# Altium footprint library CornellBajaLibrary.PcbLib: 110 footprints (part 5 of 7)
Each footprint in its own frame and in the unit in brackets; x right, y up, seen from the top. Pads: shape width x height; smd on the part's side, far side on the other; paste and mask are expansions set on the pad; w line width, h text height; cw(c..) or ccw(c..) is an arc to the next point about the centre after c.
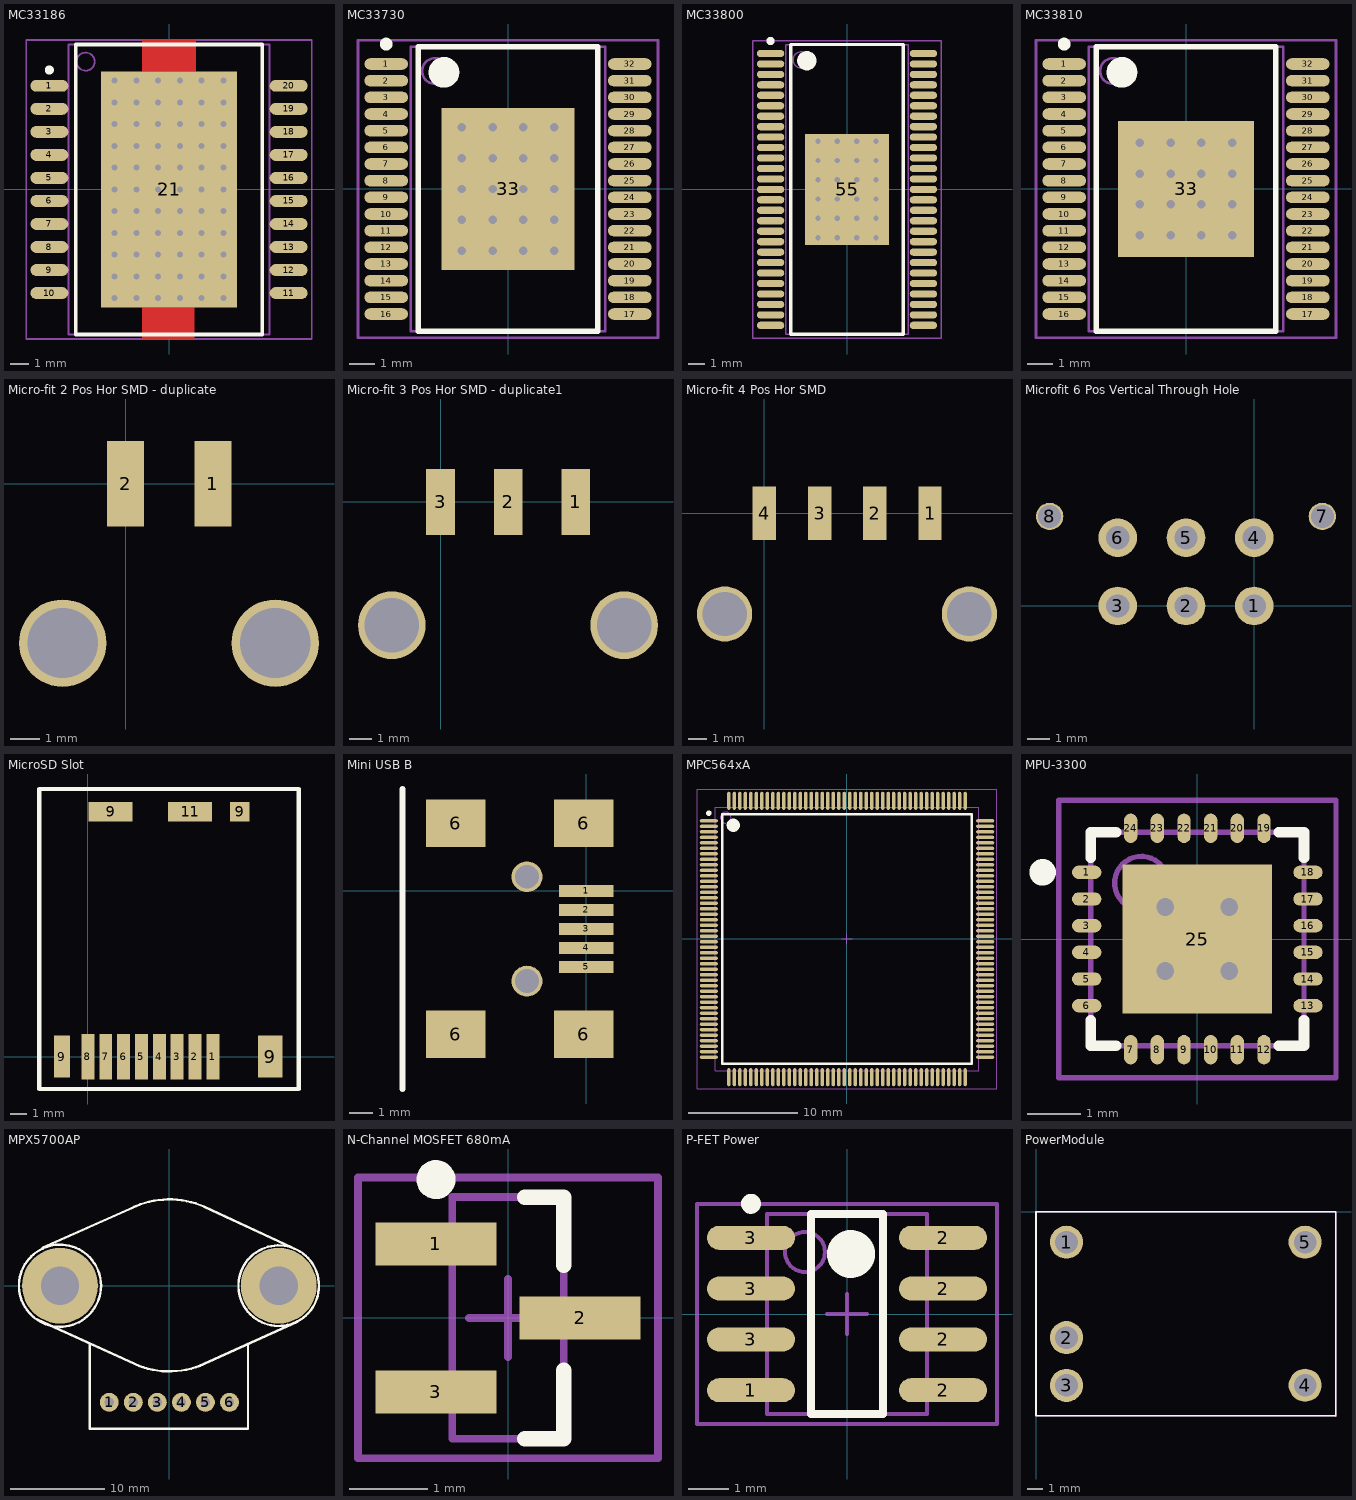
[diagram p4: the footprints below, top view; thin cyan lines are the x and y axes]

## MC33186 [mm] "SOP, 20-Leads, Body 16.0x11.1mm (max), Pitch 1.27mm, IPC Medium Density"
height 3.4
pads (21):
  oval 2.1x0.65 smd: 1(-6.6,5.715) 2(-6.6,4.445) 3(-6.6,3.175) 4(-6.6,1.905) 5(-6.6,0.635) 6(-6.6,-0.635) 7(-6.6,-1.905) 8(-6.6,-3.175) 9(-6.6,-4.445) 10(-6.6,-5.715) 11(6.6,-5.715) 12(6.6,-4.445) 13(6.6,-3.175) 14(6.6,-1.905) 15(6.6,-0.635) 16(6.6,0.635) 17(6.6,1.905) 18(6.6,3.175) 19(6.6,4.445) 20(6.6,5.715)
  rect 7.5x13 smd: 21(0,0)
via -3,6 diameter 0.66 hole 0.33
via -1.8,6 diameter 0.66 hole 0.33
via -0.6,6 diameter 0.66 hole 0.33
via 0.6,6 diameter 0.66 hole 0.33
via 1.8,6 diameter 0.66 hole 0.33
via 3,6 diameter 0.66 hole 0.33
via -3,4.8 diameter 0.66 hole 0.33
via -1.8,4.8 diameter 0.66 hole 0.33
via -0.6,4.8 diameter 0.66 hole 0.33
via 0.6,4.8 diameter 0.66 hole 0.33
via 1.8,4.8 diameter 0.66 hole 0.33
via 3,4.8 diameter 0.66 hole 0.33
via -3,3.6 diameter 0.66 hole 0.33
via -1.8,3.6 diameter 0.66 hole 0.33
via -0.6,3.6 diameter 0.66 hole 0.33
via 0.6,3.6 diameter 0.66 hole 0.33
via 1.8,3.6 diameter 0.66 hole 0.33
via 3,3.6 diameter 0.66 hole 0.33
via -3,2.4 diameter 0.66 hole 0.33
via -1.8,2.4 diameter 0.66 hole 0.33
via -0.6,2.4 diameter 0.66 hole 0.33
via 0.6,2.4 diameter 0.66 hole 0.33
via 1.8,2.4 diameter 0.66 hole 0.33
via 3,2.4 diameter 0.66 hole 0.33
via -3,1.2 diameter 0.66 hole 0.33
via -1.8,1.2 diameter 0.66 hole 0.33
via -0.6,1.2 diameter 0.66 hole 0.33
via 0.6,1.2 diameter 0.66 hole 0.33
via 1.8,1.2 diameter 0.66 hole 0.33
via 3,1.2 diameter 0.66 hole 0.33
via -3,0 diameter 0.66 hole 0.33
via -1.8,0 diameter 0.66 hole 0.33
via -0.6,0 diameter 0.66 hole 0.33
via 0.6,0 diameter 0.66 hole 0.33
via 1.8,0 diameter 0.66 hole 0.33
via 3,0 diameter 0.66 hole 0.33
via -3,-1.2 diameter 0.66 hole 0.33
via -1.8,-1.2 diameter 0.66 hole 0.33
via -0.6,-1.2 diameter 0.66 hole 0.33
via 0.6,-1.2 diameter 0.66 hole 0.33
via 1.8,-1.2 diameter 0.66 hole 0.33
via 3,-1.2 diameter 0.66 hole 0.33
via -3,-2.4 diameter 0.66 hole 0.33
via -1.8,-2.4 diameter 0.66 hole 0.33
via -0.6,-2.4 diameter 0.66 hole 0.33
via 0.6,-2.4 diameter 0.66 hole 0.33
via 1.8,-2.4 diameter 0.66 hole 0.33
via 3,-2.4 diameter 0.66 hole 0.33
via -3,-3.6 diameter 0.66 hole 0.33
via -1.8,-3.6 diameter 0.66 hole 0.33
via -0.6,-3.6 diameter 0.66 hole 0.33
via 0.6,-3.6 diameter 0.66 hole 0.33
via 1.8,-3.6 diameter 0.66 hole 0.33
via 3,-3.6 diameter 0.66 hole 0.33
via -3,-4.8 diameter 0.66 hole 0.33
via -1.8,-4.8 diameter 0.66 hole 0.33
via -0.6,-4.8 diameter 0.66 hole 0.33
via 0.6,-4.8 diameter 0.66 hole 0.33
via 1.8,-4.8 diameter 0.66 hole 0.33
via 3,-4.8 diameter 0.66 hole 0.33
via -3,-6 diameter 0.66 hole 0.33
via -1.8,-6 diameter 0.66 hole 0.33
via -0.6,-6 diameter 0.66 hole 0.33
via 0.6,-6 diameter 0.66 hole 0.33
via 1.8,-6 diameter 0.66 hole 0.33
via 3,-6 diameter 0.66 hole 0.33
Top Layer:
  rectangle: -1.5,6.5 1.5,8.3
  rectangle: -1.5,-8.25 1.4,-6.5
Top Overlay:
  circle w0.25: c-6.6,6.59 r0.125
  lines w0.2: -5.15,-8 -5.15,8 5.15,8 5.15,-8 -5.15,-8
Mechanical 13:
  circle w0.1: c-4.6,7.05 r0.5
  lines w0.1: -5.55,-8 -5.55,8 5.55,8 5.55,-8 -5.55,-8
Mechanical 15:
  lines w0.1: -0.5,0 0.5,0 ; 0,-0.5 0,0.5 ; -7.875,-8.25 -7.875,8.25 7.875,8.25 7.875,-8.25 -7.875,-8.25
3D body: height 3.4, standoff 0, extent -5.55,-8 5.55,8

## MC33730 [mm] "SOP, 32-Leads, Body 11.1x7.6mm (max), Pitch 0.65mm, IPC Medium Density"
height 2.65
pads (33):
  oval 1.7x0.45 smd: 1(-4.75,4.875) 2(-4.75,4.225) 3(-4.75,3.575) 4(-4.75,2.925) 5(-4.75,2.275) 6(-4.75,1.625) 7(-4.75,0.975) 8(-4.75,0.325) 9(-4.75,-0.325) 10(-4.75,-0.975) 11(-4.75,-1.625) 12(-4.75,-2.275) 13(-4.75,-2.925) 14(-4.75,-3.575) 15(-4.75,-4.225) 16(-4.75,-4.875) 17(4.75,-4.875) 18(4.75,-4.225) 19(4.75,-3.575) 20(4.75,-2.925) 21(4.75,-2.275) 22(4.75,-1.625) 23(4.75,-0.975) 24(4.75,-0.325) 25(4.75,0.325) 26(4.75,0.975) 27(4.75,1.625) 28(4.75,2.275) 29(4.75,2.925) 30(4.75,3.575) 31(4.75,4.225) 32(4.75,4.875)
  rect 5.2x6.3 smd: 33(0,0)
via 1.8,-2.4 diameter 0.66 hole 0.33
via 0.6,-2.4 diameter 0.66 hole 0.33
via -0.6,-2.4 diameter 0.66 hole 0.33
via -1.8,-2.4 diameter 0.66 hole 0.33
via 1.8,-1.2 diameter 0.66 hole 0.33
via 0.6,-1.2 diameter 0.66 hole 0.33
via -0.6,-1.2 diameter 0.66 hole 0.33
via -1.8,-1.2 diameter 0.66 hole 0.33
via 1.8,0 diameter 0.66 hole 0.33
via 0.6,0 diameter 0.66 hole 0.33
via -0.6,0 diameter 0.66 hole 0.33
via -1.8,0 diameter 0.66 hole 0.33
via 1.8,1.2 diameter 0.66 hole 0.33
via 0.6,1.2 diameter 0.66 hole 0.33
via -0.6,1.2 diameter 0.66 hole 0.33
via -1.8,1.2 diameter 0.66 hole 0.33
via 1.8,2.4 diameter 0.66 hole 0.33
via 0.6,2.4 diameter 0.66 hole 0.33
via -0.6,2.4 diameter 0.66 hole 0.33
via -1.8,2.4 diameter 0.66 hole 0.33
Top Overlay:
  circle w0.6: c-2.5,4.55 r0.3
  circle w0.25: c-4.75,5.65 r0.125
  lines w0.2: -3.5,-5.55 3.5,-5.55 3.5,5.55 -3.5,5.55 -3.5,-5.55
Mechanical 13:
  circle w0.1: c-2.85,4.6 r0.5
  lines w0.1: -3.8,-5.55 3.8,-5.55 3.8,5.55 -3.8,5.55 -3.8,-5.55
Mechanical 15:
  lines w0.1: -0.5,0 0.5,0 ; 0,-0.5 0,0.5 ; -5.85,-5.8 5.85,-5.8 5.85,5.8 -5.85,5.8 -5.85,-5.8
3D body: height 2.65, standoff 0, extent -3.8,-5.55 3.8,5.55

## MC33800 [mm] "SOP, 54-Leads, Body 18.0x7.6mm (max), Pitch 0.65mm, IPC Medium Density"
height 2.45
pads (55):
  oval 1.7x0.45 smd: 1(-4.75,8.45) 2(-4.75,7.8) 3(-4.75,7.15) 4(-4.75,6.5) 5(-4.75,5.85) 6(-4.75,5.2) 7(-4.75,4.55) 8(-4.75,3.9) 9(-4.75,3.25) 10(-4.75,2.6) 11(-4.75,1.95) 12(-4.75,1.3) 13(-4.75,0.65) 14(-4.75,0) 15(-4.75,-0.65) 16(-4.75,-1.3) 17(-4.75,-1.95) 18(-4.75,-2.6) 19(-4.75,-3.25) 20(-4.75,-3.9) 21(-4.75,-4.55) 22(-4.75,-5.2) 23(-4.75,-5.85) 24(-4.75,-6.5) 25(-4.75,-7.15) 26(-4.75,-7.8) 27(-4.75,-8.45) 28(4.75,-8.45) 29(4.75,-7.8) 30(4.75,-7.15) 31(4.75,-6.5) 32(4.75,-5.85) 33(4.75,-5.2) 34(4.75,-4.55) 35(4.75,-3.9) 36(4.75,-3.25) 37(4.75,-2.6) 38(4.75,-1.95) 39(4.75,-1.3) 40(4.75,-0.65) 41(4.75,0) 42(4.75,0.65) 43(4.75,1.3) 44(4.75,1.95) 45(4.75,2.6) 46(4.75,3.25) 47(4.75,3.9) 48(4.75,4.55) 49(4.75,5.2) 50(4.75,5.85) 51(4.75,6.5) 52(4.75,7.15) 53(4.75,7.8) 54(4.75,8.45)
  rect 5.2x6.9 smd: 55(0,0)
via 1.8,-3 diameter 0.66 hole 0.33
via 0.6,-3 diameter 0.66 hole 0.33
via -0.6,-3 diameter 0.66 hole 0.33
via -1.8,-3 diameter 0.66 hole 0.33
via 1.8,-1.8 diameter 0.66 hole 0.33
via 0.6,-1.8 diameter 0.66 hole 0.33
via -0.6,-1.8 diameter 0.66 hole 0.33
via -1.8,-1.8 diameter 0.66 hole 0.33
via 1.8,-0.6 diameter 0.66 hole 0.33
via 0.6,-0.6 diameter 0.66 hole 0.33
via -0.6,-0.6 diameter 0.66 hole 0.33
via -1.8,-0.6 diameter 0.66 hole 0.33
via 1.8,0.6 diameter 0.66 hole 0.33
via 0.6,0.6 diameter 0.66 hole 0.33
via -0.6,0.6 diameter 0.66 hole 0.33
via -1.8,0.6 diameter 0.66 hole 0.33
via 1.8,1.8 diameter 0.66 hole 0.33
via 0.6,1.8 diameter 0.66 hole 0.33
via -0.6,1.8 diameter 0.66 hole 0.33
via -1.8,1.8 diameter 0.66 hole 0.33
via 1.8,3 diameter 0.66 hole 0.33
via 0.6,3 diameter 0.66 hole 0.33
via -0.6,3 diameter 0.66 hole 0.33
via -1.8,3 diameter 0.66 hole 0.33
Top Overlay:
  circle w0.6: c-2.5,8 r0.3
  circle w0.25: c-4.75,9.225 r0.125
  lines w0.2: -3.5,-9 3.5,-9 3.5,9 -3.5,9 -3.5,-9
Mechanical 13:
  circle w0.1: c-2.85,8.05 r0.5
  lines w0.1: -3.8,-9 3.8,-9 3.8,9 -3.8,9 -3.8,-9
Mechanical 15:
  lines w0.1: -0.5,0 0.5,0 ; 0,-0.5 0,0.5 ; -5.85,-9.25 5.85,-9.25 5.85,9.25 -5.85,9.25 -5.85,-9.25
3D body: height 2.45, standoff 0, extent -3.8,-9 3.8,9

## MC33810 [mm] "SOP, 32-Leads, Body 11.1x7.6mm (max), Pitch 0.65mm, IPC Medium Density"
height 2.45
pads (33):
  oval 1.7x0.45 smd: 1(-4.75,4.875) 2(-4.75,4.225) 3(-4.75,3.575) 4(-4.75,2.925) 5(-4.75,2.275) 6(-4.75,1.625) 7(-4.75,0.975) 8(-4.75,0.325) 9(-4.75,-0.325) 10(-4.75,-0.975) 11(-4.75,-1.625) 12(-4.75,-2.275) 13(-4.75,-2.925) 14(-4.75,-3.575) 15(-4.75,-4.225) 16(-4.75,-4.875) 17(4.75,-4.875) 18(4.75,-4.225) 19(4.75,-3.575) 20(4.75,-2.925) 21(4.75,-2.275) 22(4.75,-1.625) 23(4.75,-0.975) 24(4.75,-0.325) 25(4.75,0.325) 26(4.75,0.975) 27(4.75,1.625) 28(4.75,2.275) 29(4.75,2.925) 30(4.75,3.575) 31(4.75,4.225) 32(4.75,4.875)
  rect 5.3x5.3 smd: 33(0,0)
via -1.8,1.8 diameter 0.66 hole 0.33
via 0.6,1.8 diameter 0.66 hole 0.33
via 1.8,1.8 diameter 0.66 hole 0.33
via -1.8,0.6 diameter 0.66 hole 0.33
via -0.6,0.6 diameter 0.66 hole 0.33
via 0.6,0.6 diameter 0.66 hole 0.33
via 1.8,0.6 diameter 0.66 hole 0.33
via -1.8,-0.6 diameter 0.66 hole 0.33
via -0.6,-0.6 diameter 0.66 hole 0.33
via 0.6,-0.6 diameter 0.66 hole 0.33
via 1.8,-0.6 diameter 0.66 hole 0.33
via -1.8,-1.8 diameter 0.66 hole 0.33
via -0.6,-1.8 diameter 0.66 hole 0.33
via 0.6,-1.8 diameter 0.66 hole 0.33
via 1.8,-1.8 diameter 0.66 hole 0.33
via -0.6,1.8 diameter 0.66 hole 0.33
Top Overlay:
  circle w0.6: c-2.5,4.55 r0.3
  circle w0.25: c-4.75,5.65 r0.125
  lines w0.2: -3.5,-5.55 3.5,-5.55 3.5,5.55 -3.5,5.55 -3.5,-5.55
Mechanical 13:
  circle w0.1: c-2.85,4.6 r0.5
  lines w0.1: -3.8,-5.55 3.8,-5.55 3.8,5.55 -3.8,5.55 -3.8,-5.55
Mechanical 15:
  lines w0.1: -0.5,0 0.5,0 ; 0,-0.5 0,0.5 ; -5.85,-5.8 5.85,-5.8 5.85,5.8 -5.85,5.8 -5.85,-5.8
3D body: height 2.45, standoff 0, extent -3.8,-5.55 3.8,5.55

## Micro-fit 2 Pos Hor SMD - duplicate [mm]
pads (4):
  rect 1.27x2.92 smd: 1(3,0) 2(0,0)
  round 3 hole 2.41: ""(-2.16,-5.47) ""(5.14,-5.47)
3D body: height 5.73, standoff -1.87, extent -3.325,-10.05 6.325,0.69

## Micro-fit 3 Pos Hor SMD - duplicate1 [mm]
pads (5):
  rect 1.27x2.92 smd: 1(6,0) 2(3,0) 3(0,0)
  round 3 hole 2.41: ""(-2.16,-5.47) ""(8.14,-5.47)
3D body: height 5.73, standoff -1.87, extent -3.325,-10.15 9.325,0.59

## Micro-fit 4 Pos Hor SMD [mm]
pads (6):
  rect 1.27x2.92 smd: 1(9,0) 2(6,0) 3(3,0) 4(0,0)
  round 3 hole 2.41: ""(-2.16,-5.47) ""(11.14,-5.47)
3D body: height 5.73, standoff -1.87, extent -3.225,-10.05 12.425,0.69

## Microfit 6 Pos Vertical Through Hole [mm]
pads (8):
  round 1.7 hole 1.02: 1(0,0) 2(-3,0) 3(-6,0) 4(0,3) 5(-3,3) 6(-6,3)
  round 1.2 hole 1.02: 7(3,3.94) 8(-9,3.94)
3D body: height 10.05, standoff -3.04, extent -9.575,-2.47 3.575,6.3

## MicroSD Slot [mm] "DM3CS-SF"
height 2
pads (13):
  rect 0.8x2.8 smd: 1(7.7,0) 2(6.6,0) 3(5.5,0) 4(4.4,0) 5(3.3,0) 6(2.2,0) 7(1.1,0) 8(0,0)
  rect 1x2.6 smd: 9(-1.6,0)
  rect 2.7x1.2 smd: 9(1.4,15.1) 11(6.3,15.1)
  rect 1.2x1.2 smd: 9(9.35,15.1)
  rect 1.5x2.6 smd: 9(11.25,0)
Top Overlay:
  lines w0.254: -3,-2 13,-2 13,16.5 -3,16.5 -3,-2
3D body: height 2, standoff 0, extent -3,-2 13,16.5

## Mini USB B [mm]
height 4
pads (11):
  rect 2.3x0.5 smd: 1(0,0) 2(0,-0.8) 3(0,-1.6) 4(0,-2.4) 5(0,-3.2)
  rect 2.5x2 smd: 6(-5.5,-6.05) 6(-5.5,2.85) 6(-0.1,-6.05) 6(-0.1,2.85)
  round 1.3 hole 1: ""(-2.5,-3.8) ""(-2.5,0.6)
Top Overlay:
  lines w0.254: -7.75,-8.35 -7.75,-2.525 -7.75,4.3
3D body: height 4.14, standoff -0.95, extent -8.375,-6.598 0.825,3.302

## MPC564xA [mm] "TSQFP, 176-Leads, Body 26.0x26.0mm (max), Pitch 0.50mm, IPC Medium Density"
height 1.6
pads (176):
  oval 1.65x0.3 smd: 1(-12.575,10.75) 2(-12.575,10.25) 3(-12.575,9.75) 4(-12.575,9.25) 5(-12.575,8.75) 6(-12.575,8.25) 7(-12.575,7.75) 8(-12.575,7.25) 9(-12.575,6.75) 10(-12.575,6.25) 11(-12.575,5.75) 12(-12.575,5.25) 13(-12.575,4.75) 14(-12.575,4.25) 15(-12.575,3.75) 16(-12.575,3.25) 17(-12.575,2.75) 18(-12.575,2.25) 19(-12.575,1.75) 20(-12.575,1.25) 21(-12.575,0.75) 22(-12.575,0.25) 23(-12.575,-0.25) 24(-12.575,-0.75) 25(-12.575,-1.25) 26(-12.575,-1.75) 27(-12.575,-2.25) 28(-12.575,-2.75) 29(-12.575,-3.25) 30(-12.575,-3.75) 31(-12.575,-4.25) 32(-12.575,-4.75) 33(-12.575,-5.25) 34(-12.575,-5.75) 35(-12.575,-6.25) 36(-12.575,-6.75) 37(-12.575,-7.25) 38(-12.575,-7.75) 39(-12.575,-8.25) 40(-12.575,-8.75) 41(-12.575,-9.25) 42(-12.575,-9.75) 43(-12.575,-10.25) 44(-12.575,-10.75) 89(12.575,-10.75) 90(12.575,-10.25) 91(12.575,-9.75) 92(12.575,-9.25) 93(12.575,-8.75) 94(12.575,-8.25) 95(12.575,-7.75) 96(12.575,-7.25) 97(12.575,-6.75) 98(12.575,-6.25) 99(12.575,-5.75) 100(12.575,-5.25) 101(12.575,-4.75) 102(12.575,-4.25) 103(12.575,-3.75) 104(12.575,-3.25) 105(12.575,-2.75) 106(12.575,-2.25) 107(12.575,-1.75) 108(12.575,-1.25) 109(12.575,-0.75) 110(12.575,-0.25) 111(12.575,0.25) 112(12.575,0.75) 113(12.575,1.25) 114(12.575,1.75) 115(12.575,2.25) 116(12.575,2.75) 117(12.575,3.25) 118(12.575,3.75) 119(12.575,4.25) 120(12.575,4.75) 121(12.575,5.25) 122(12.575,5.75) 123(12.575,6.25) 124(12.575,6.75) 125(12.575,7.25) 126(12.575,7.75) 127(12.575,8.25) 128(12.575,8.75) 129(12.575,9.25) 130(12.575,9.75) 131(12.575,10.25) 132(12.575,10.75)
  oval 0.3x1.65 smd: 45(-10.75,-12.575) 46(-10.25,-12.575) 47(-9.75,-12.575) 48(-9.25,-12.575) 49(-8.75,-12.575) 50(-8.25,-12.575) 51(-7.75,-12.575) 52(-7.25,-12.575) 53(-6.75,-12.575) 54(-6.25,-12.575) 55(-5.75,-12.575) 56(-5.25,-12.575) 57(-4.75,-12.575) 58(-4.25,-12.575) 59(-3.75,-12.575) 60(-3.25,-12.575) 61(-2.75,-12.575) 62(-2.25,-12.575) 63(-1.75,-12.575) 64(-1.25,-12.575) 65(-0.75,-12.575) 66(-0.25,-12.575) 67(0.25,-12.575) 68(0.75,-12.575) 69(1.25,-12.575) 70(1.75,-12.575) 71(2.25,-12.575) 72(2.75,-12.575) 73(3.25,-12.575) 74(3.75,-12.575) 75(4.25,-12.575) 76(4.75,-12.575) 77(5.25,-12.575) 78(5.75,-12.575) 79(6.25,-12.575) 80(6.75,-12.575) 81(7.25,-12.575) 82(7.75,-12.575) 83(8.25,-12.575) 84(8.75,-12.575) 85(9.25,-12.575) 86(9.75,-12.575) 87(10.25,-12.575) 88(10.75,-12.575) 133(10.75,12.575) 134(10.25,12.575) 135(9.75,12.575) 136(9.25,12.575) 137(8.75,12.575) 138(8.25,12.575) 139(7.75,12.575) 140(7.25,12.575) 141(6.75,12.575) 142(6.25,12.575) 143(5.75,12.575) 144(5.25,12.575) 145(4.75,12.575) 146(4.25,12.575) 147(3.75,12.575) 148(3.25,12.575) 149(2.75,12.575) 150(2.25,12.575) 151(1.75,12.575) 152(1.25,12.575) 153(0.75,12.575) 154(0.25,12.575) 155(-0.25,12.575) 156(-0.75,12.575) 157(-1.25,12.575) 158(-1.75,12.575) 159(-2.25,12.575) 160(-2.75,12.575) 161(-3.25,12.575) 162(-3.75,12.575) 163(-4.25,12.575) 164(-4.75,12.575) 165(-5.25,12.575) 166(-5.75,12.575) 167(-6.25,12.575) 168(-6.75,12.575) 169(-7.25,12.575) 170(-7.75,12.575) 171(-8.25,12.575) 172(-8.75,12.575) 173(-9.25,12.575) 174(-9.75,12.575) 175(-10.25,12.575) 176(-10.75,12.575)
Top Overlay:
  circle w0.6: c-10.35,10.35 r0.3
  circle w0.25: c-12.575,11.45 r0.125
  lines w0.2: -11.35,-11.35 11.35,-11.35 11.35,11.35 -11.35,11.35 -11.35,-11.35
Mechanical 13:
  circle w0.1: c-11.05,11.05 r0.5
  lines w0.1: -12,-12 12,-12 12,12 -12,12 -12,-12
Mechanical 15:
  lines w0.1: -0.5,0 0.5,0 ; 0,-0.5 0,0.5 ; -13.65,-13.65 13.65,-13.65 13.65,13.65 -13.65,13.65 -13.65,-13.65
3D body: height 1.6, standoff 0.05, extent -12,-12 12,12

## MPU-3300 [mm] "QFN, 24-Leads, Body 4.0x4.0mm (max), Pitch 0.50mm, IPC Medium Density"
height 0.8
pads (25):
  oval 0.55x0.25 smd: 1(-2.075,1.25) 2(-2.075,0.75) 3(-2.075,0.25) 4(-2.075,-0.25) 5(-2.075,-0.75) 6(-2.075,-1.25) 13(2.075,-1.25) 14(2.075,-0.75) 15(2.075,-0.25) 16(2.075,0.25) 17(2.075,0.75) 18(2.075,1.25)
  oval 0.25x0.55 smd: 7(-1.25,-2.075) 8(-0.75,-2.075) 9(-0.25,-2.075) 10(0.25,-2.075) 11(0.75,-2.075) 12(1.25,-2.075) 19(1.25,2.075) 20(0.75,2.075) 21(0.25,2.075) 22(-0.25,2.075) 23(-0.75,2.075) 24(-1.25,2.075)
  rect 2.8x2.8 smd: 25(0,0)
via -0.6,0.6 diameter 0.66 hole 0.33
via 0.6,0.6 diameter 0.66 hole 0.33
via -0.6,-0.6 diameter 0.66 hole 0.33
via 0.6,-0.6 diameter 0.66 hole 0.33
Top Overlay:
  circle w0.25: c-2.9,1.25 r0.125
  lines w0.2: -2,-1.525 -2,-2 -1.525,-2 ; -2,1.525 -2,2 -1.525,2 ; 1.525,-2 2,-2 2,-1.525 ; 1.525,2 2,2 2,1.525
Mechanical 13:
  circle w0.1: c-1.05,1.05 r0.5
  lines w0.1: -2,-2 -2,2 2,2 2,-2 -2,-2
Mechanical 15:
  lines w0.1: -0.5,0 0.5,0 ; 0,-0.5 0,0.5 ; -2.6,-2.6 -2.6,2.6 2.6,2.6 2.6,-2.6 -2.6,-2.6
3D body: height 0.8, standoff 0.01, extent -2,-2 2,2

## MPX5700AP [mm]
pads (8):
  round 2 hole 1: 1(-6.35,-12.32) 2(-3.81,-12.32) 3(-1.27,-12.32) 4(1.27,-12.32) 5(3.81,-12.32) 6(6.35,-12.32)
  round 8 hole 4.04: ""(-11.55,0) ""(11.55,0)
Top Overlay:
  circle w0.254: c11.55,0 r4.255
  circle w0.254: c-11.55,0 r4.335
  lines w0.254: -13.9,-3.6 -3.1,-8.5 ; -13.4,4 -3.72,8.325 ; -8.4,-6.2 -8.4,-15.1 8.3,-15.1 8.3,-6.15 ; -4,8.2 cw(c0,0) 3.696,8.342 13,4 ; -3.255,-8.442 ccw(c0,0) 3.269,-8.436 ; 3.1,-8.5 13.5,-3.8

## N-Channel MOSFET 680mA [mm] "FDV303N"
height 1.15
pads (3):
  rect 1.55x0.55 smd: 1(-0.925,0.95) 2(0.925,0) 3(-0.925,-0.95)
Top Overlay:
  circle w0.25: c-0.925,1.775 r0.125
  lines w0.2: 0.215,-1.55 0.715,-1.55 0.715,-0.675 ; 0.215,1.55 0.715,1.55 0.715,0.675
Mechanical 13:
  lines w0.1: -0.715,-1.55 0.715,-1.55 0.715,1.55 -0.715,1.55 -0.715,-1.55
Mechanical 15:
  lines w0.1: -0.5,0 0.5,0 ; 0,-0.5 0,0.5 ; -1.925,-1.8 1.925,-1.8 1.925,1.8 -1.925,1.8 -1.925,-1.8
3D body: height 1.15, standoff 0.05, extent -0.715,-1.55 0.715,1.55

## P-FET Power [mm] "STS5PF30L 5A"
height 1.75
pads (8):
  oval 2.2x0.6 smd: 1(-2.4,-1.905) 2(2.4,-1.905) 2(2.4,-0.635) 2(2.4,0.635) 2(2.4,1.905) 3(-2.4,-0.635) 3(-2.4,0.635) 3(-2.4,1.905)
Top Overlay:
  circle w0.6: c0.1,1.5 r0.3
  circle w0.25: c-2.4,2.755 r0.125
  lines w0.2: -0.9,-2.5 0.9,-2.5 0.9,2.5 -0.9,2.5 -0.9,-2.5
Mechanical 13:
  circle w0.1: c-1.05,1.55 r0.5
  lines w0.1: -2,-2.5 2,-2.5 2,2.5 -2,2.5 -2,-2.5
Mechanical 15:
  lines w0.1: -0.5,0 0.5,0 ; 0,-0.5 0,0.5 ; -3.75,-2.75 3.75,-2.75 3.75,2.75 -3.75,2.75 -3.75,-2.75
3D body: height 1.75, standoff 0.1, extent -2,-2.5 2,2.5

## PowerModule [mm]
height 8.5
pads (5):
  round 2.2 hole 1.5: 1(2.03,-2.03) 2(2.03,-8.38) 3(2.03,-11.56) 4(17.91,-11.55) 5(17.91,-2.03)
Top Overlay:
  lines w0.1: 19.939,-13.615 19.939,-0.025 ; 19.94,-13.59 0,-13.59 0,0 19.94,0
Mechanical 13:
  lines w0.1: 0,-13.59 0,0 19.94,0 ; 0.025,-13.59 19.965,-13.59 ; 19.939,-13.59 19.939,0
3D body: height 8.5, standoff 0.08, extent 0,-13.59 19.939,0